# EAGLE library part WF-10 (library Radicon_connectors)
.100" (2.54mm) Center Header - 10 Pin
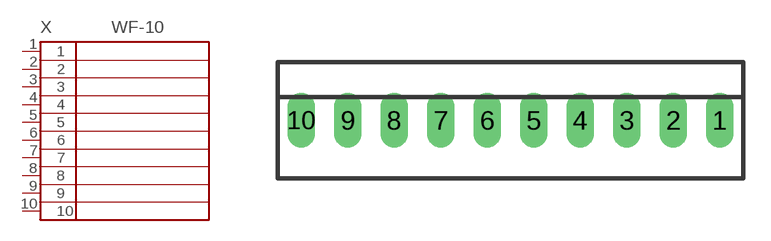
[diagram p5: symbol with the pads of 22-23-2101; footprint 22-23-2101]

Designator prefix X

## WF-10  [22-23-2101]
1  1
2  2
3  3
4  4
5  5
6  6
7  7
8  8
9  9
10  10

## Footprint 22-23-2101 (pad centres in mm)
.100" (2.54mm) Center Header - 10 Pin
drill 1 long: 1 11.43,0; 2 8.89,0; 3 6.35,0; 4 3.81,0; 5 1.27,0; 6 -1.27,0; 7 -3.81,0; 8 -6.35,0; 9 -8.89,0; 10 -11.43,0